# Altium schematic symbol library 1nF 2kV cap cer TH.SchLib: 1 symbol
Pins are listed as number, name and electrical type; pins without a type are passive.

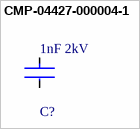
[diagram p0: symbol CMP-04427-000004-1]

## CMP-04427-000004-1
designator C?, comment 1nF 2kV
CAP CER 1000PF 2KV X7R RADIAL; Manufacturer Part Number: AR30GC102K4R; Manufacturer: AVX Corporation; Temperature Coefficient: 15%; Tolerance: 10%; Material: Ceramic; Automotive Grade: Grade 1; Voltage Rating: 2000V; Device Class L3: Ceramic Capacitors; Temperature: -55°C to +125°C; Value: 1000pF; ComponentLink2Description: Datasheet; ComponentLink2URL: http://datasheets.avx.com/AR-Series.pdf; Mouser Description: Multilayer Ceramic Capacitors MLCC - Leaded 2000volts 1000pF 10% X7R; Octopart: https://octopart.com/ar30gc102k4r-avx-24931757; Category: Cap; Height: 7.62mm; RoHS: TRUE; Lead Free: Yes; Device Class L2: Capacitors; Temperature Range High: +125°C; Package: AR30; Temperature Characteristic: X7R; Device Class L1: Passive Components; Automotive: Yes; Capacitance: 1000pF; Temperature Range Low: -55°C; Digikey Description: CAP CER 1000PF 2KV X7R RADIAL
footprint FP-AR30-MFG
pins: 1, 2